# EAGLE library part 74HCT173 (library ds_ic_logic)
CDx4HC173, CDx4HCT173 High-Speed CMOS Logic Quad D-Type Flip-Flop, ThreeState
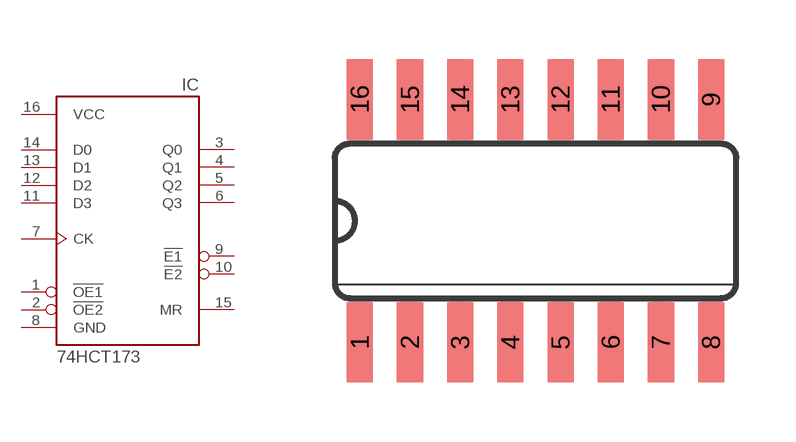
[diagram p11: symbol with the pads of SO16; footprint SO16]

Designator prefix IC

## 74HCT173 (DATASHEET: https://www.ti.com/lit/ds/symlink/cd74hc173.pdf; DESCRIPTION: 4.5V~5.5V 60MHz 40ns@4.5V,50pF D-Type 4 1 8uA SOIC-16 Flip Flops ROHS; LCSC_PART: C3827006; VALUE: CD74HCT173M96)  [SO16]
1  !OE1  in
2  !OE2  in
3  Q0  out
4  Q1  out
5  Q2  out
6  Q3  out
7  CK  in
8  GND  pwr
9  !E1  in
10  !E2  in
11  D3  in
12  D2  in
13  D1  in
14  D0  in
15  MR  in
16  VCC  pwr

## Footprint SO16 (pad centres in mm)
Small Outline package 150 mil
smd 0.66 x 2.032: 1 -4.445,-3.073; 2 -3.175,-3.073; 3 -1.905,-3.073; 4 -0.635,-3.073; 5 0.635,-3.073; 6 1.905,-3.073; 7 3.175,-3.073; 8 4.445,-3.073; 9 4.445,3.073; 10 3.175,3.073; 11 1.905,3.073; 12 0.635,3.073; 13 -0.635,3.073; 14 -1.905,3.073; 15 -3.175,3.073; 16 -4.445,3.073